# Altium footprint library PRECI-DIP_833-87-006-10-001101.PcbLib: 1 footprints
Each footprint in its own frame and in the unit in brackets; x right, y up, seen from the top. Pads: shape width x height; smd on the part's side, far side on the other; paste and mask are expansions set on the pad; w line width, h text height; cw(c..) or ccw(c..) is an arc to the next point about the centre after c.
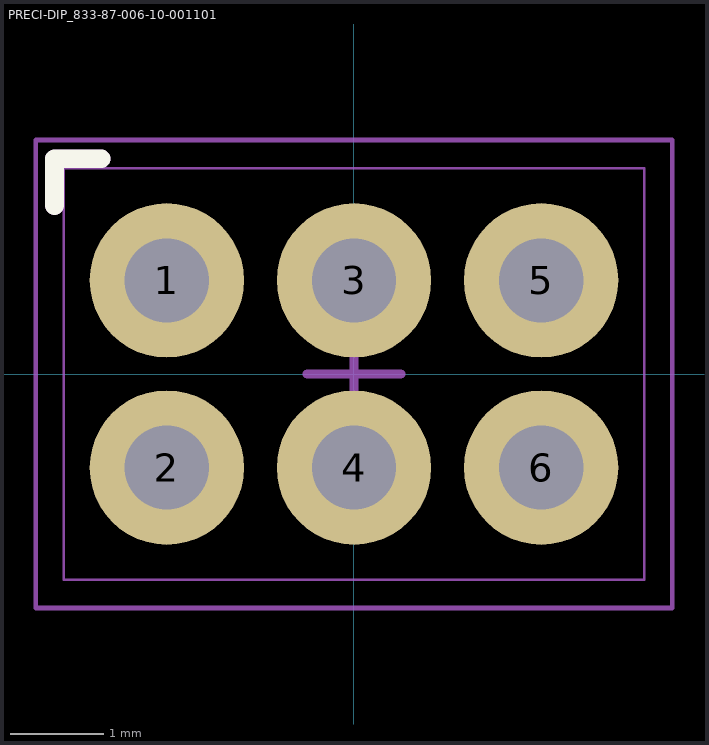
[diagram p0: the footprint, top view; thin cyan lines are the x and y axes]

## PRECI-DIP_833-87-006-10-001101 [mm]
height 4.3
pads (6):
  round 1.65 hole 0.9: 1(-2,1) 2(-2,-1) 3(0,1) 4(0,-1) 5(2,1) 6(2,-1)
Top Overlay:
  lines w0.2: -3.2,1.8 -3.2,2.3 -2.7,2.3
Mechanical 13:
  lines w0.025: -3.1,-2.2 -3.1,2.2 3.1,2.2 3.1,-2.2 -3.1,-2.2
  lines w0.2: -3.2,1.8 -3.2,2.3 -2.7,2.3
Mechanical 15:
  lines w0.05: -3.4,-2.5 -3.4,2.5 3.4,2.5 3.4,-2.5 -3.4,-2.5
  lines w0.1: -0.5,0 0.5,0 ; 0,-0.5 0,0.5
3D body: height 4.3, standoff 0, extent -3.1,-2.2 3.1,2.2